# EAGLE library part 74HC00PW_QUAD_NAND (library myLib)
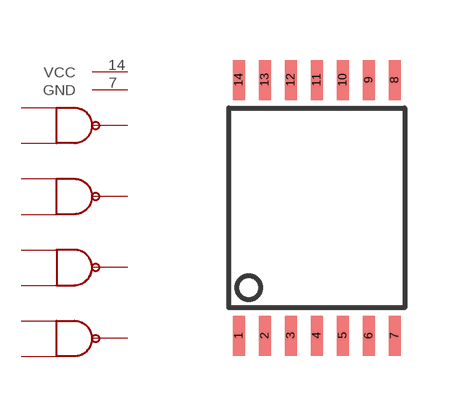
[diagram p2: symbol with the pads of TSSOP14; footprint TSSOP14]

Designator prefix -

## 74HC00PW_QUAD_NAND  [TSSOP14]
1  A1
2  B1
3  Y1
4  A2
5  B2
6  Y2
7  GND
8  Y3
9  A3
10  B3
11  Y4
12  A4
13  B4
14  VCC

## Footprint TSSOP14 (pad centres in mm)
smd 0.3 x 1: 1 -1.95,-3.2; 2 -1.3,-3.2; 3 -0.65,-3.2; 4 0,-3.2; 5 0.65,-3.2; 6 1.3,-3.2; 7 1.95,-3.2; 8 1.95,3.2; 9 1.3,3.2; 10 0.65,3.2; 11 0,3.2; 12 -0.65,3.2; 13 -1.3,3.2; 14 -1.95,3.2